# Altium footprint library Capacitor Tantalum Leadless.PcbLib: 7 footprints
Each footprint in its own frame and in the unit in brackets; x right, y up, seen from the top. Pads: shape width x height; smd on the part's side, far side on the other; paste and mask are expansions set on the pad; w line width, h text height; cw(c..) or ccw(c..) is an arc to the next point about the centre after c.
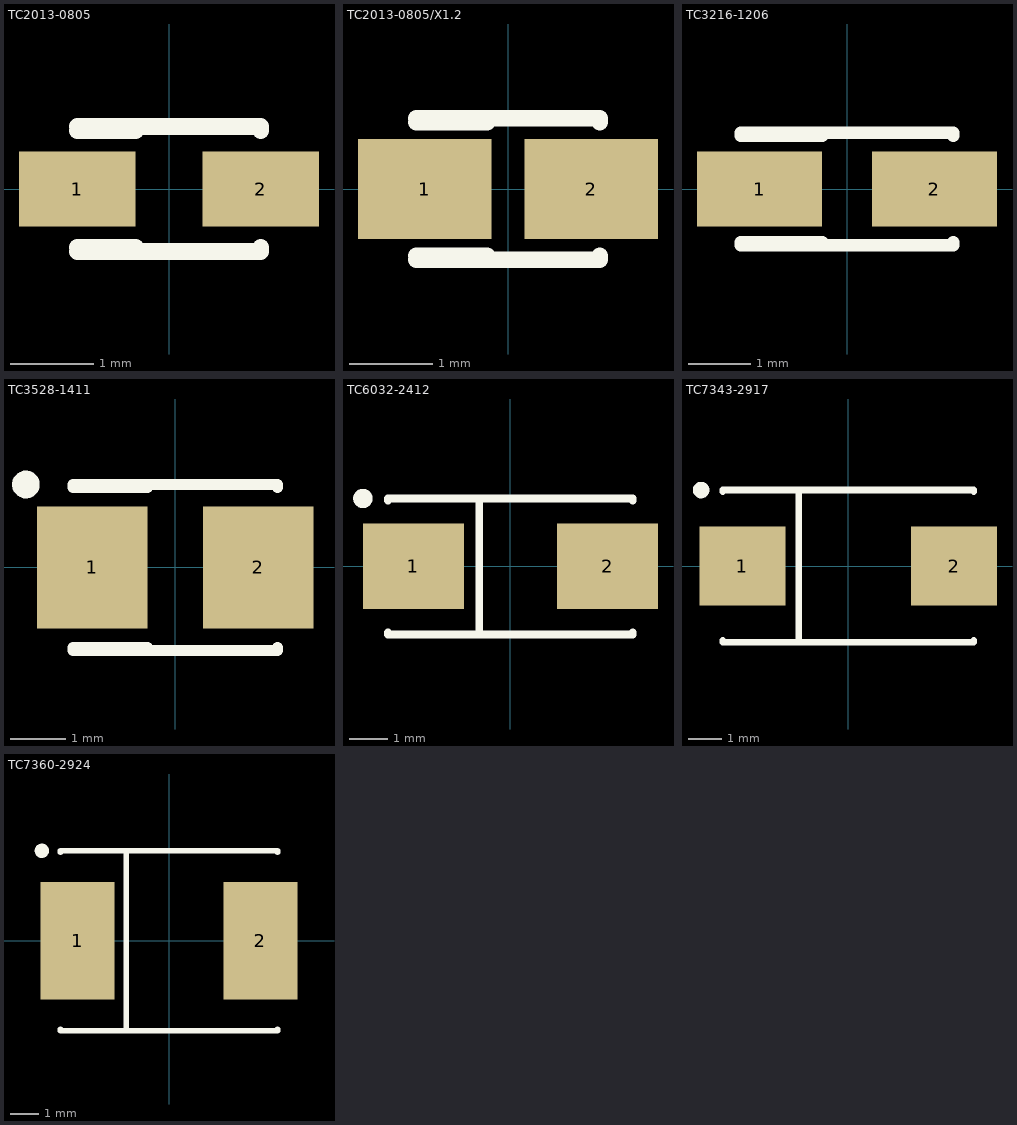
[diagram p0: the footprints below, top view; thin cyan lines are the x and y axes]

## TC2013-0805 [mm] "Capacitor, SM Tantalum; Body 2.0 x 1.3 mm (LxW typ)"
height 1.2
pads (2):
  rect 1.4x0.9 smd: 1(-1.1,0) 2(1.1,0)
Top Overlay:
  lines w0.2: -1.1,-0.75 1.1,-0.75 1.1,-0.7 ; -1.1,-0.7 -0.4,-0.7 ; -1.1,0.7 -0.4,0.7 ; -1.1,0.75 1.1,0.75 1.1,0.7

## TC2013-0805/X1.2 [mm] "Capacitor, SM Tantalum; Body 2.0 x 1.25 mm (LxW typ)"
height 1.2
pads (2):
  rect 1.6x1.2 smd: 1(-1,0) 2(1,0)
Top Overlay:
  lines w0.2: -1.1,-0.85 1.1,-0.85 1.1,-0.8 ; -1.1,-0.8 -0.25,-0.8 ; -1.1,0.8 -0.25,0.8 ; -1.1,0.85 1.1,0.85 1.1,0.8

## TC3216-1206 [mm] "Capacitor, SM Tantalum; Body 3.2 x 1.6 mm (LxW typ)"
height 2.2
pads (2):
  rect 2x1.2 smd: 1(-1.4,0) 2(1.4,0)
Top Overlay:
  lines w0.2: -1.7,-0.9 1.7,-0.9 1.7,-0.85 ; -1.7,-0.85 -0.4,-0.85 ; -1.7,0.85 -0.4,0.85 ; -1.7,0.9 1.7,0.9 1.7,0.85

## TC3528-1411 [mm] "Capacitor, SM Tantalum; Body 3.5 x 2.8 mm (LxW typ)"
height 2.5
pads (2):
  rect 2x2.2 smd: 1(-1.5,0) 2(1.5,0)
Top Overlay:
  circle w0.25: c-2.7,1.5 r0.125
  lines w0.2: -1.85,-1.5 1.85,-1.5 1.85,-1.45 ; -1.85,-1.45 -0.5,-1.45 ; -1.85,1.45 -0.5,1.45 ; -1.85,1.5 1.85,1.5 1.85,1.45

## TC6032-2412 [mm] "Capacitor, SM Tantalum; Body 6.0 x 3.2 mm (LxW typ)"
height 3.4
pads (2):
  rect 2.6x2.2 smd: 1(-2.5,0) 2(2.5,0)
Top Overlay:
  circle w0.25: c-3.8,1.75 r0.125
  lines w0.2: -3.15,-1.7 -3.15,-1.75 3.15,-1.75 3.15,-1.7 ; -3.15,1.7 -3.15,1.75 3.15,1.75 3.15,1.7 ; -0.8,-1.75 -0.8,1.75

## TC7343-2917 [mm] "Capacitor, SM Tantalum; Body 7.3 x 4.3 mm (LxW typ)"
height 3.7
pads (2):
  rect 2.6x2.4 smd: 1(-3.2,0) 2(3.2,0)
Top Overlay:
  circle w0.25: c-4.45,2.3 r0.125
  lines w0.2: -3.8,-2.25 -3.8,-2.3 3.8,-2.3 3.8,-2.25 ; -3.8,2.25 -3.8,2.3 3.8,2.3 3.8,2.25 ; -1.5,-2.3 -1.5,2.3

## TC7360-2924 [mm] "Capacitor, SM Tantalum; Body 7.3 x 6.0 mm (LxW typ)"
height 3.8
pads (2):
  rect 2.6x4.1 smd: 1(-3.2,0) 2(3.2,0)
Top Overlay:
  circle w0.25: c-4.45,3.15 r0.125
  lines w0.2: -3.8,-3.1 -3.8,-3.15 3.8,-3.15 3.8,-3.1 ; -3.8,3.1 -3.8,3.15 3.8,3.15 3.8,3.1 ; -1.5,-3.15 -1.5,3.15